# Altium footprint library Capacitor_THT.PcbLib: 1 footprints
Each footprint in its own frame and in the unit in brackets; x right, y up, seen from the top. Pads: shape width x height; smd on the part's side, far side on the other; paste and mask are expansions set on the pad; w line width, h text height; cw(c..) or ccw(c..) is an arc to the next point about the centre after c.
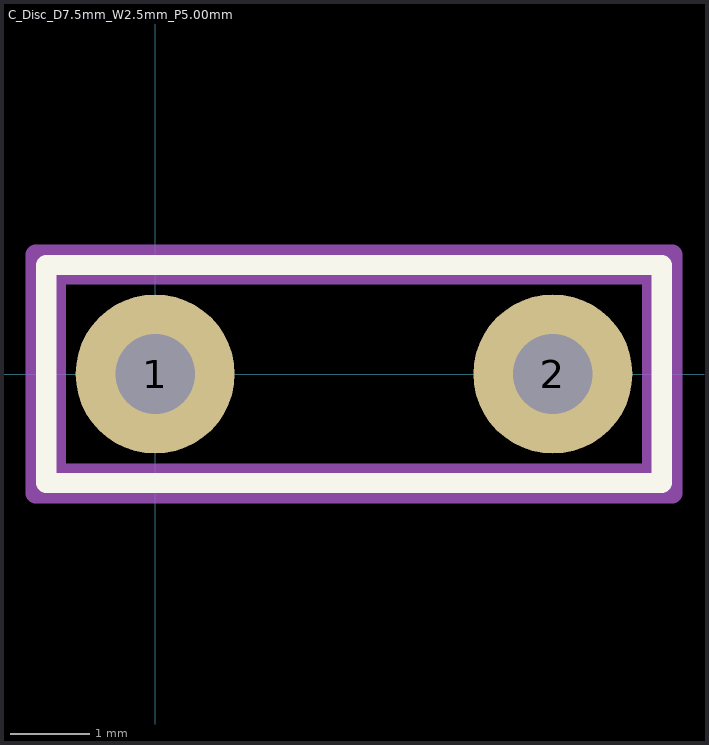
[diagram p0: the footprint, top view; thin cyan lines are the x and y axes]

## C_Disc_D7.5mm_W2.5mm_P5.00mm [mm]
pads (2):
  round 2 hole 1: 1(0,0) 2(5,0)
F.SilkS:
  lines w0.254: -1.37,-1.37 -1.37,1.37 6.37,1.37 6.37,-1.37 -1.37,-1.37
F.Fab:
  lines w0.254: -1.25,-1.25 -1.25,1.25 6.25,1.25 6.25,-1.25 -1.25,-1.25
  text "'.Designator'" at -1.547,-0.84 h1
F.CrtYd:
  lines w0.254: -1.5,-1.5 -1.5,1.5 6.5,1.5 6.5,-1.5 -1.5,-1.5